# Altium footprint library DI_DO-214AB.PcbLib: 2 footprints
Each footprint in its own frame and in the unit in brackets; x right, y up, seen from the top. Pads: shape width x height; smd on the part's side, far side on the other; paste and mask are expansions set on the pad; w line width, h text height; cw(c..) or ccw(c..) is an arc to the next point about the centre after c.
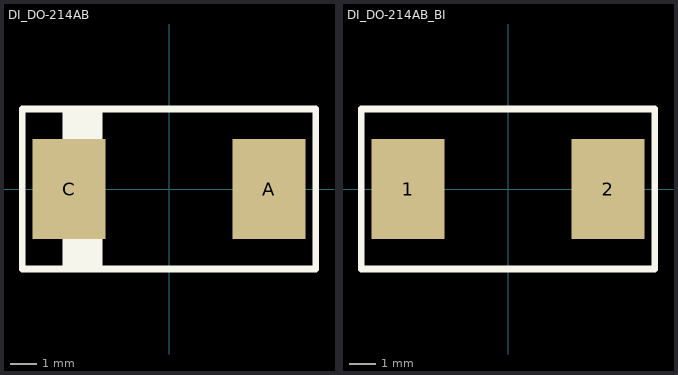
[diagram p0: the footprints below, top view; thin cyan lines are the x and y axes]

## DI_DO-214AB [mil] "DO-214AB"
pads (2):
  rect 110x150 smd: A(150,0) C(-150,0)
Top Overlay:
  rectangle: -160,-120 -100,120
  lines w10: -220,-120 220,-120 220,120 -210,120 -220,120 -220,-120
3D body: height 90.75, standoff 0, extent -156.5,-116.13 156.49,116.15

## DI_DO-214AB_BI [mil] "DO-214AB"
pads (2):
  rect 110x150 smd: 1(-150,0) 2(150,0)
Top Overlay:
  lines w10: -220,-120 220,-120 220,120 -210,120 -220,120 -220,-120
3D body: height 90.75, standoff 0, extent -156.5,-116.13 156.49,116.15